# Altium integrated library Linear Technology Power Management Switching Regulator LTC1174-LTC3901.IntLib: 2647 symbols (part 293 of 364)
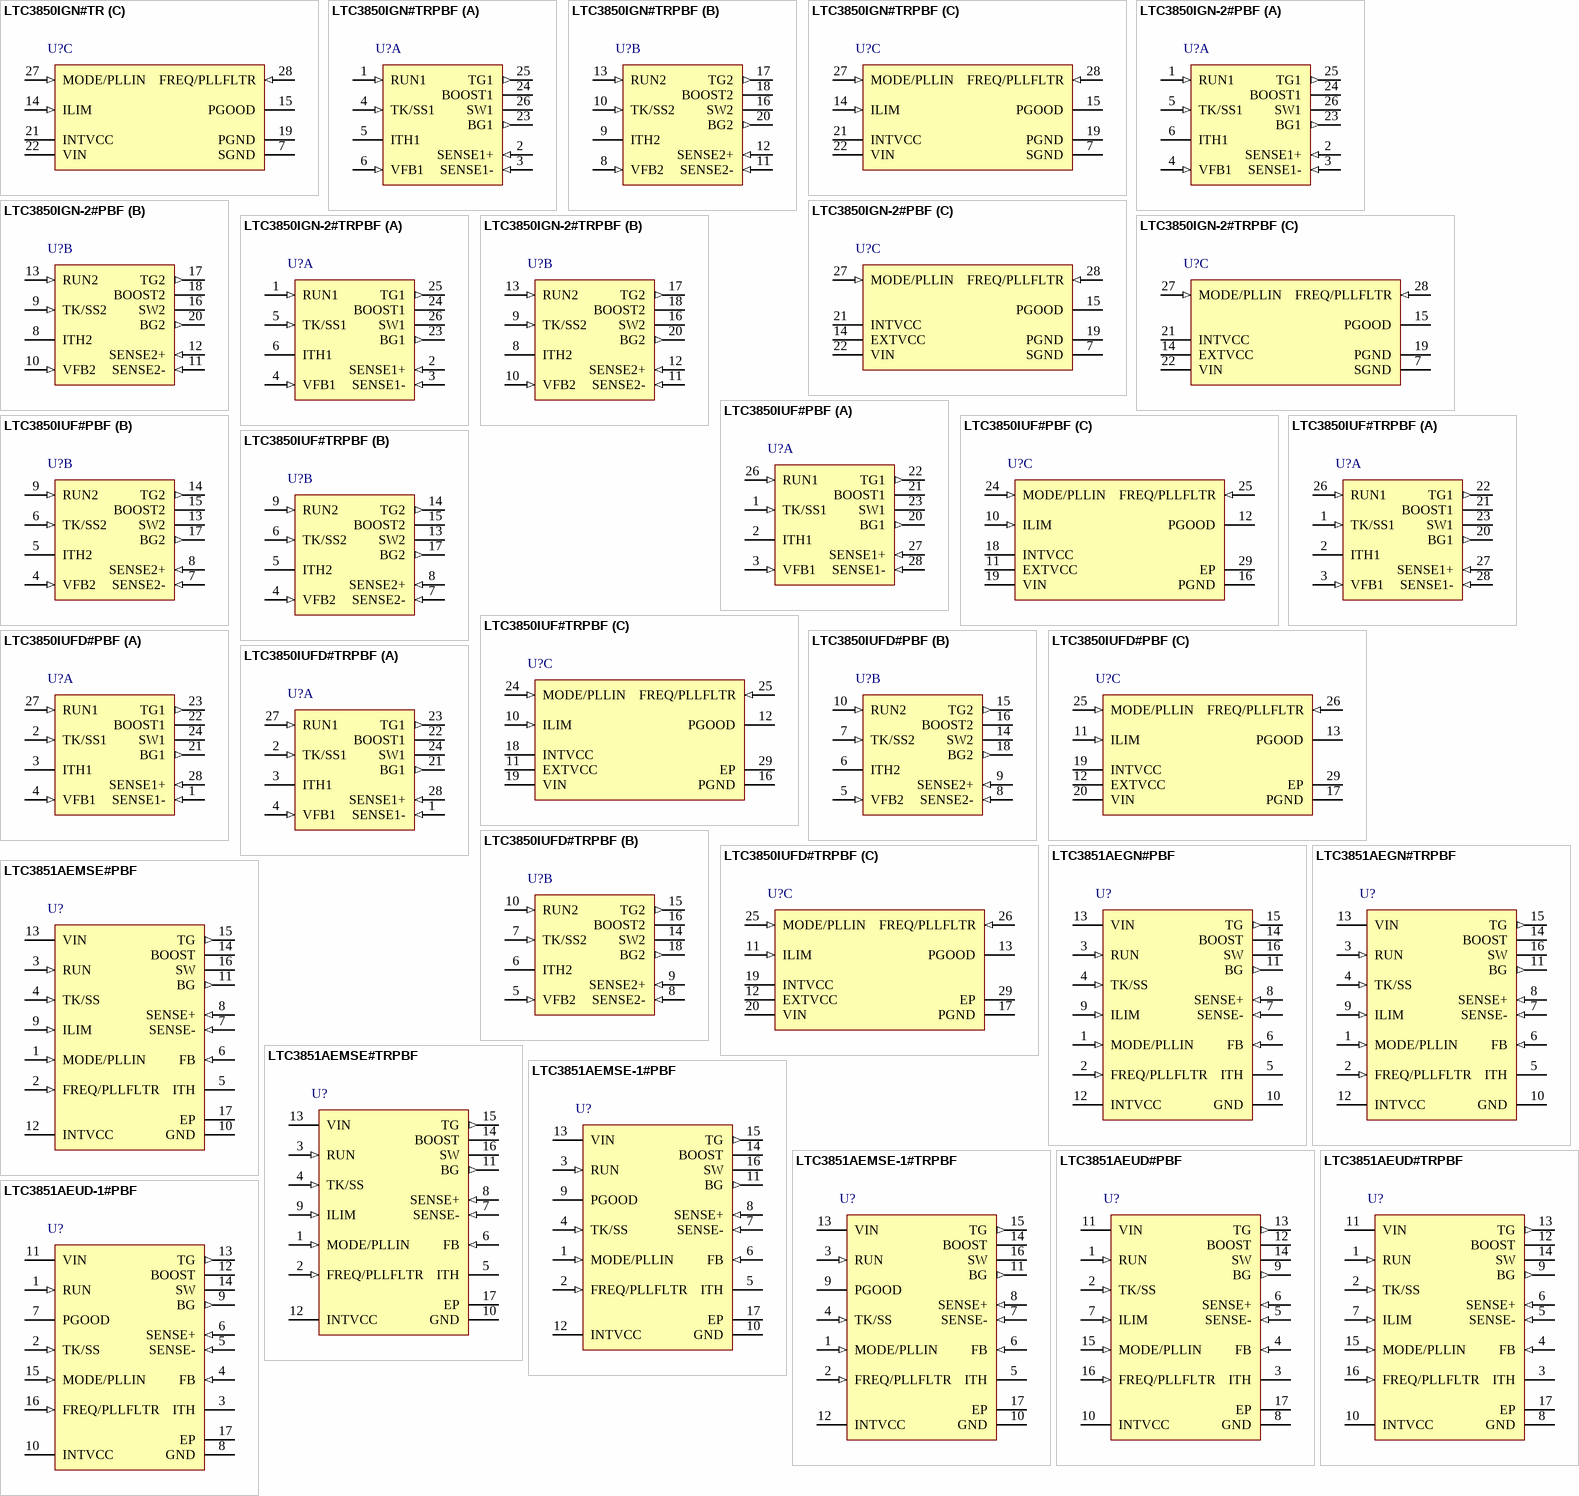
[diagram p368: symbols LTC3850IGN#TR to LTC3851AEUD-1#PBF]

## LTC3850IUF#TRPBF
designator U?
Dual, 2-Phase Synchronous Step-Down Switching Controller, 28-pin QFN (UF-28), -40 to 85 degC, Pb-Free, Tape and Reel; Manufacturer: Linear Technology; PartNumber: LTC3850IUF#TRPBF; Frequency Sync Range: 250kHz - 780kHz; Number of Outputs: 2; DatasheetVersion: Rev. C; PackageVersion: Rev. A, 06/2010; PackageReference: UF-28; PackageDescription: 28-Pin Plastic QFN, Body 4 x 4 mm, Pitch 0.4 mm; Supplier 1: Digi-Key; Supplier Part Number 1: LTC3850IUF#TRPBF-ND; Packing: Tape and Reel; RoHS: TRUE; Mounting Technology: Surface Mount; ComponentLink1Description: Manufacturer URL; ComponentLink1URL: http://www.linear.com/; ComponentLink2Description: Datasheet; ComponentLink2URL: http://cds.linear.com/docs/en/datasheet/38501fc.pdf; ComponentLink3Description: Package Specification; ComponentLink3URL: http://cds.linear.com/docs/en/packaging/QFN_28_05-08-1721.pdf
footprint LT-UF-28_N (QFN, 28-Leads, Body 4.1x4.1mm, Pitch 0.4mm, Thermal Pad 2.64x2.64mm, IPC Medium Density)
footprint LT-UF-28_L (QFN, 28-Leads, Body 4.1x4.1mm, Pitch 0.4mm, Thermal Pad 2.64x2.64mm, IPC High Density)
footprint LT-UF-28_M (QFN, 28-Leads, Body 4.1x4.1mm, Pitch 0.4mm, Thermal Pad 2.64x2.64mm, IPC Low Density)
part A pins: 1 TK/SS1 (in) "Output Voltage Tracking and Soft-Start Inputs. When one channel is configured to be master of the two channels, a capacitor to ground at this pin sets the ramp rate for the master channel's output voltage. When the channe(See Datasheet)", 2 ITH1 "Current Control Thresholds and Error Amplifier Compensation Points. Each associated channels?current comparator tripping threshold increases with its ITH control voltage.", 3 VFB1 (in) "Error Amplifier Feedback Inputs. These pins receive the remotely sensed feedback voltages for each channel from external resistive dividers across the outputs.", 20 BG1 (out) "Bottom Gate Driver Outputs. These pins drive the gates of the bottom N-Channel MOSFETs and swings between PGND and INTVCC.", 21 BOOST1 "Boosted Floating Driver Supplies. The (+) terminal of the boost-strap capacitors connect to these pins. These pins swing from a diode voltage drop below INTVCC up to VIN + INTVCC.", 22 TG1 (out) "Top Gate Driver Outputs. These are the outputs of floating drivers with a voltage swing equal to INTVCC superimposed on the switch nodes voltages.", 23 SW1 "Switch Node Connections to Inductors. Voltage swing at these pins are from a body diode voltage drop below ground to VIN.", 26 RUN1 (in) "Run Control Inputs. A voltage above 1.2V on either pin turns on the IC. However, forcing either of these pins below 1.2V causes the IC to shut down that particular channel. There are 0.5uA pull-up currents for these pins. (See Datasheet)", 27 SENSE1+ (in) "Current Sense Comparator Inputs. The (+) inputs to the current comparators are normally connected to DCR sensing networks or current sensing resistors.", 28 SENSE1- (in) "Current Sense Comparator Inputs. The (-) inputs to the current comparators are connected to the outputs"
part B pins: 4 VFB2 (in) "Error Amplifier Feedback Inputs. These pins receive the remotely sensed feedback voltages for each channel from external resistive dividers across the outputs.", 5 ITH2 "Current Control Thresholds and Error Amplifier Compensation Points. Each associated channels?current comparator tripping threshold increases with its ITH control voltage.", 6 TK/SS2 (in) "Output Voltage Tracking and Soft-Start Inputs. When one particular channel is configured to be the master of two channels, a capacitor to ground at this pin sets the ramp rate for the master channel's output voltage. Whe(See Datasheet)", 7 SENSE2- (in) "Current Sense Comparator Inputs. The (-) inputs to the current comparators are connected to the outputs", 8 SENSE2+ (in) "Current Sense Comparator Inputs. The (+) inputs to the current comparators are normally connected to DCR sensing networks or current sensing resistors.", 9 RUN2 (in) "Run Control Inputs. A voltage above 1.2V on either pin turns on the IC. However, forcing either of these pins below 1.2V causes the IC to shut down that particular channel. There are 0.5uA pull-up currents for these pins. (See Datasheet)", 13 SW2 "Switch Node Connections to Inductors. Voltage swing at these pins are from a body diode voltage drop below ground to VIN.", 14 TG2 (out) "Top Gate Driver Outputs. These are the outputs of floating drivers with a voltage swing equal to INTVCC superimposed on the switch nodes voltages.", 15 BOOST2 "Boosted Floating Driver Supplies. The (+) terminal of the boost-strap capacitors connect to these pins. These pins swing from a diode voltage drop below INTVCC up to VIN + INTVCC.", 17 BG2 (out) "Bottom Gate Driver Outputs. These pins drive the gates of the bottom N-Channel MOSFETs and swings between PGND and INTVCC."
part C pins: 10 ILIM (in) "Current Comparator Sense Voltage Range Inputs. Tying this pin to SGND, FLOAT or INTVCC sets the maximum current sense threshold to three different levels for each comparator.", 11 EXTVCC (power) "External Power Input to an Internal Switch Connected to INTVCC. This switch closes and supplies the IC power, bypassing the internal low dropout regulator, whenever EXTVCC is higher than 4.7V. Do not exceed 6V on this pin (See Datasheet)", 12 PGOOD (oc) "Power Good Indicator Output. Open-drain logic out that is pulled to ground when either channel output exceeds the +/-7.5% regulation window, after the internal 17us power bad mask timer expires.", 16 PGND (power) "Power Ground Pin. Connect this pin closely to the sources of the bottom N-channel MOSFETs, the (-) terminal of CVCC and the (-) terminal of CIN", 18 INTVCC (power) "Internal 5V Regulator Output. The control circuits are powered from this voltage. Decouple this pin to PGND with a 4.7uF low ESR tantalum or ceramic capacitor.", 19 VIN (power) "Main Input Supply. Decouple this pin to PGND with a capacitor (0.1uF to 1uF). For applications where the main input power is 5V, tie the VIN and INTVCC pins together.", 24 MODE/PLLIN (in) "Force Continuous Mode, Burst Mode, or Pulse-Skipping Mode Selection Pin and External Synchronization Input to Phase Detector Pin. Connect this pin to SGND to force both channels into the continuous mode of operation. Connect (See Datasheet)", 25 FREQ/PLLFLTR (in) "The Phase-Locked Loop’s Low-Pass Filter is Tied to This Pin. Alternatively, this pin can be driven with a DC voltage to vary the frequency of the internal oscillator.", 29 EP (power) "Signal Ground. Must be soldered to PCB, providing a local ground for the control components of the IC, and be tied to the PGND pin under the IC."